# EAGLE library part ISL83078EIBZA (library ISL83078EIBZA)
The Intersil ISL8307XE are BiCMOS 3. 3V powered, single transceivers that meet both the RS-485 and RS-422 standards for balanced communication. These devices have very low bus currents (+125mA/-100mA), so they present a true 1/8 unit load to the RS-485 bus. This allows up to 256 transceivers on the network without violating the RS-485 specifications 32 unit load maximum, and without using repeaters. For example, in a remote utility meter reading system, individual meter readings are routed to a concentra Source: Datasheet <https://www.renesas.com/en-us/www/doc/datasheet/isl83070e-71e-72e-73e-75e-78e.pdf>
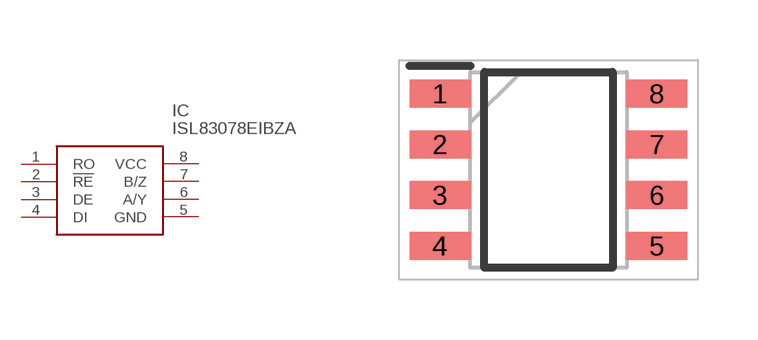
[diagram p0: symbol with the pads of SOIC127P600X175-8N; footprint SOIC127P600X175-8N]

Designator prefix IC

## ISL83078EIBZA (Description: The Intersil ISL8307XE are BiCMOS 3. 3V powered, single transceivers that meet both the RS-485 and RS-422 standards for balanced communication. These devices have very low bus currents (+125mA/-100mA), so they present a true 1/8 unit load to the RS-485 bus. This allows up to 256 transceivers on the network without violating the RS-485 specifications 32 unit load maximum, and without using repeaters. For example, in a remote utility meter reading system, individual meter readings are routed to a concentra; Height: 1.75mm; Manufacturer_Name: Renesas Electronics; Manufacturer_Part_Number: ISL83078EIBZA; Mouser_Part_Number: 968-ISL83078EIBZA; Mouser_Price-Stock: https://www.mouser.co.uk/ProductDetail/Renesas-Intersil/ISL83078EIBZA?qs=dAsayXGOMrvZH4ftGSAhkg%3D%3D)  [SOIC127P600X175-8N]
1  RO
2  !RE
3  DE
4  DI
5  GND
6  A/Y
7  B/Z
8  VCC

## Footprint SOIC127P600X175-8N (pad centres in mm)
M8.15-ren4
smd 1.525 x 0.7: 1 -2.712,1.905; 2 -2.712,0.635; 3 -2.712,-0.635; 4 -2.712,-1.905; 5 2.712,-1.905; 6 2.712,-0.635; 7 2.712,0.635; 8 2.712,1.905